# EAGLE library part TEXAS_INSTRUMENTS-LED_DRIVER-TLC59731DR (library Module_ICs)
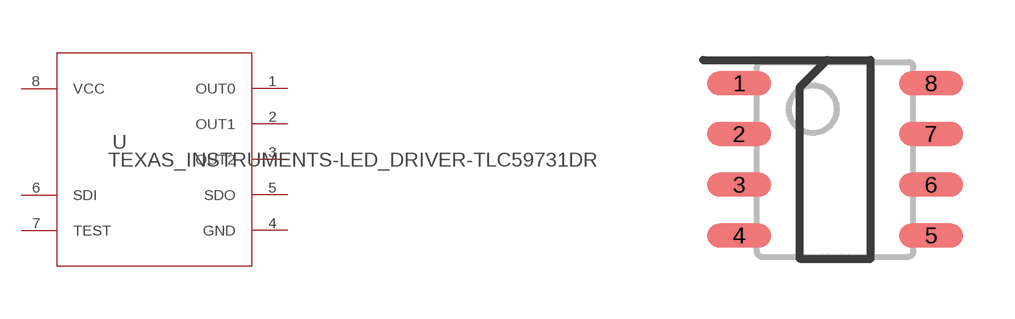
[diagram p28: symbol with the pads of TEXAS_INSTRUMENTS-CAN_TRANSCEIVER-TCAN1042/LED_DRIVER-TLC59731DR; footprint TEXAS_INSTRUMENTS-CAN_TRANSCEIVER-TCAN1042/LED_DRIVER-TLC59731DR]

Designator prefix U

## TEXAS_INSTRUMENTS-LED_DRIVER-TLC59731DR (ALTERNATEPARTNUMBER: TLC59731D; APPLICATION_BUILDNUMBER: *; COMPTYPE: IC; MANUFACTURER: Texas Instruments; MOUNTTYPE: SMT; PACKAGEREFERENCE: D0008A; PARTNUMBER: TLC59731DR; PIN_COUNT: 8; REFDES: RefDes; ROHS: Y; SYMBOLVERISON: 20141208; TYPE: TYPE; VALUE: Value)  [TEXAS_INSTRUMENTS-CAN_TRANSCEIVER-TCAN1042/LED_DRIVER-TLC59731DR]
1  OUT0  out
2  OUT1  out
3  OUT2  out
4  GND  pwr
5  SDO  out
6  SDI  in
7  TEST  pas
8  VCC  pwr

## Footprint TEXAS_INSTRUMENTS-CAN_TRANSCEIVER-TCAN1042/LED_DRIVER-TLC59731DR (pad centres in mm)
smd 1.6 x 0.6: 1 -2.4,1.905; 2 -2.4,0.635; 3 -2.4,-0.635; 4 -2.4,-1.905; 5 2.4,-1.905; 6 2.4,-0.635; 7 2.4,0.635; 8 2.4,1.905